# Altium schematic symbol library NCP718_SOT23.SchLib: 1 symbol
Pins are listed as number, name and electrical type; pins without a type are passive.

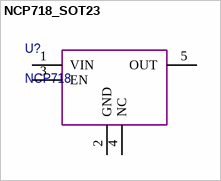
[diagram p0: symbol NCP718_SOT23]

## NCP718_SOT23
designator U?, comment NCP718
LDO Voltage Regulators 300 MA LOW IQ WIDE INPUT 3.3V
pins: 1 VIN, 2 GND, 3 EN, 4 NC, 5 OUT